# Altium integrated library 1376384-1.IntLib: 1 symbol
Pins are listed as number, name and electrical type; pins without a type are passive.

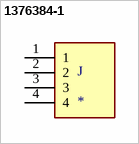
[diagram p0: symbol 1376384-1]

## 1376384-1
designator J
4 Position Single Row 5 mm Pitch Pressfit Wire-Board Header Receptacle Assembly; MF: TE Connectivity; MP: 1376384-1; SnapEDA_Link: https://www.snapeda.com/parts/1376384-1/TE%20Connectivity%20AMP%20Connectors/view-part/2371909/?ref=snap; Price: None; Availability: Unavailable; TE_purchase_URL: https://www.te.com/usa-en/product-1376384-1.html?te_bu=Cor&te_type=disp&te_campaign=seda_glo_cor-seda-global-disp-prtnr-fy19-seda-model-bom-cta_sma-317_1&elqCampaignId=32493; Package: None; Value: *
footprint TE_1376384-1
pins: 1, 2, 3, 4